# Altium footprint library PCI_Express_x1_MC.PcbLib: 1 footprints
Each footprint in its own frame and in the unit in brackets; x right, y up, seen from the top. Pads: shape width x height; smd on the part's side, far side on the other; paste and mask are expansions set on the pad; w line width, h text height; cw(c..) or ccw(c..) is an arc to the next point about the centre after c.
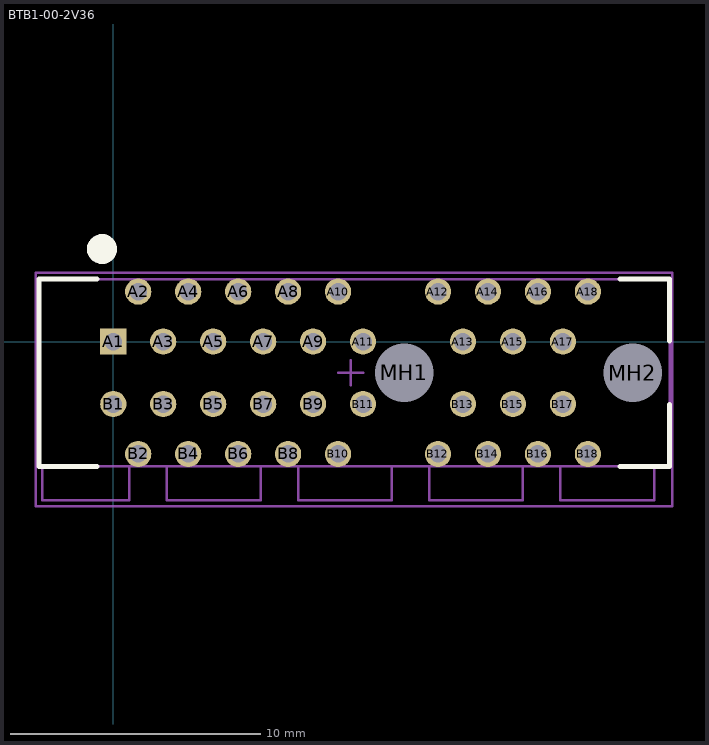
[diagram p0: the footprint, top view; thin cyan lines are the x and y axes]

## BTB1-00-2V36 [mm] "Board-to-Board Connector, PTH, Vertical, Pitch 1.00mm, 36-Position"
pads (38):
  rect 1.05x1.05 hole 0.7: A1(0,0)
  round 1.05 hole 0.7: A2(1,2) A3(2,0) A4(3,2) A5(4,0) A6(5,2) A7(6,0) A8(7,2) A9(8,0) A10(9,2) A11(10,0) A12(13,2) A13(14,0) A14(15,2) A15(16,0) A16(17,2) A17(18,0) A18(19,2) B1(0,-2.5) B2(1,-4.5) B3(2,-2.5) B4(3,-4.5) B5(4,-2.5) B6(5,-4.5) B7(6,-2.5) B8(7,-4.5) B9(8,-2.5) B10(9,-4.5) B11(10,-2.5) B12(13,-4.5) B13(14,-2.5) B14(15,-4.5) B15(16,-2.5) B16(17,-4.5) B17(18,-2.5) B18(19,-4.5)
  round 2.05 hole 2.35 unplated: MH1(11.65,-1.25) MH2(20.8,-1.25)
Top Overlay:
  circle w0.6: c-0.452,3.703 r0.3
  lines w0.2: -0.66,-5 -2.975,-5 -2.975,2.5 -0.66,2.5 ; 20.295,-5 22.275,-5 22.275,-2.52 ; 20.295,2.5 22.275,2.5 22.275,0.02
Mechanical 13:
  lines w0.1: -2.85,-5.06 -2.85,-6.35 ; 0.65,-5 0.65,-6.35 -2.85,-6.35 ; 2.15,-5 2.15,-6.35 5.9,-6.35 5.9,-5 ; 7.4,-5 7.4,-6.35 11.15,-6.35 11.15,-5 11.151,-5 ; 12.65,-5 12.65,-6.35 16.4,-6.35 16.4,-5 ; 17.9,-5 17.9,-6.35 21.65,-6.35 21.65,-5 ; -2.85,-6.35 -2.85,-6.35 ; -2.975,-5 22.275,-5 22.275,2.5 -2.975,2.5 -2.975,-5
Mechanical 15:
  lines w0.1: 9,-1.25 10,-1.25 ; 9.5,-1.75 9.5,-0.75 ; -3.1,-6.6 -3.1,2.75 22.375,2.75 22.375,-6.6 -3.1,-6.6
3D body: height 1.25, standoff 0, extent 20.75,-4.1 21.95,-2.35
3D body: height 1.25, standoff 0, extent 20.75,-0.15 21.95,1.6
3D body: height 1.25, standoff 0, extent -2.75,0.4 -1.75,1.6
3D body: height 1.25, standoff 0, extent -2.75,-4.1 -1.75,-2.9
3D body: height 11.25, standoff 1.25, extent -2.875,-5.06 22.125,2.5
3D body: height 11.25, standoff 1.25, extent -0.865,-0.35 20.165,2.5
3D body: height 11.25, standoff 1.25, extent 10.785,-2.15 12.515,-0.35
3D body: height 11.25, standoff 7.5, extent 17.9,-6.35 21.65,-5
3D body: height 11.25, standoff 7.5, extent 12.65,-6.35 16.4,-5
3D body: height 11.25, standoff 7.5, extent 7.4,-6.35 11.151,-5
3D body: height 11.25, standoff 7.5, extent 2.134,-6.35 5.9,-5
3D body: height 11.25, standoff 7.5, extent -2.875,-6.33 0.65,-5